# Altium schematic symbol library CL05A105KL5NRNC.SchLib: 1 symbol
Pins are listed as number, name and electrical type; pins without a type are passive.

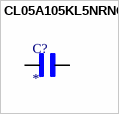
[diagram p0: symbol CL05A105KL5NRNC]

## CL05A105KL5NRNC
designator C?
MF: {'manufacturer': u'Samsung Electro-Mechanics'}; MP: CL05A105KL5NRNC; Package: None; Price: None; Value: *; Availability: Unavailable
footprint CAPC1005X70N
pins: 1, 2